# Altium integrated library Microchip Thermal Management.IntLib: 300 symbols (part 3 of 6)
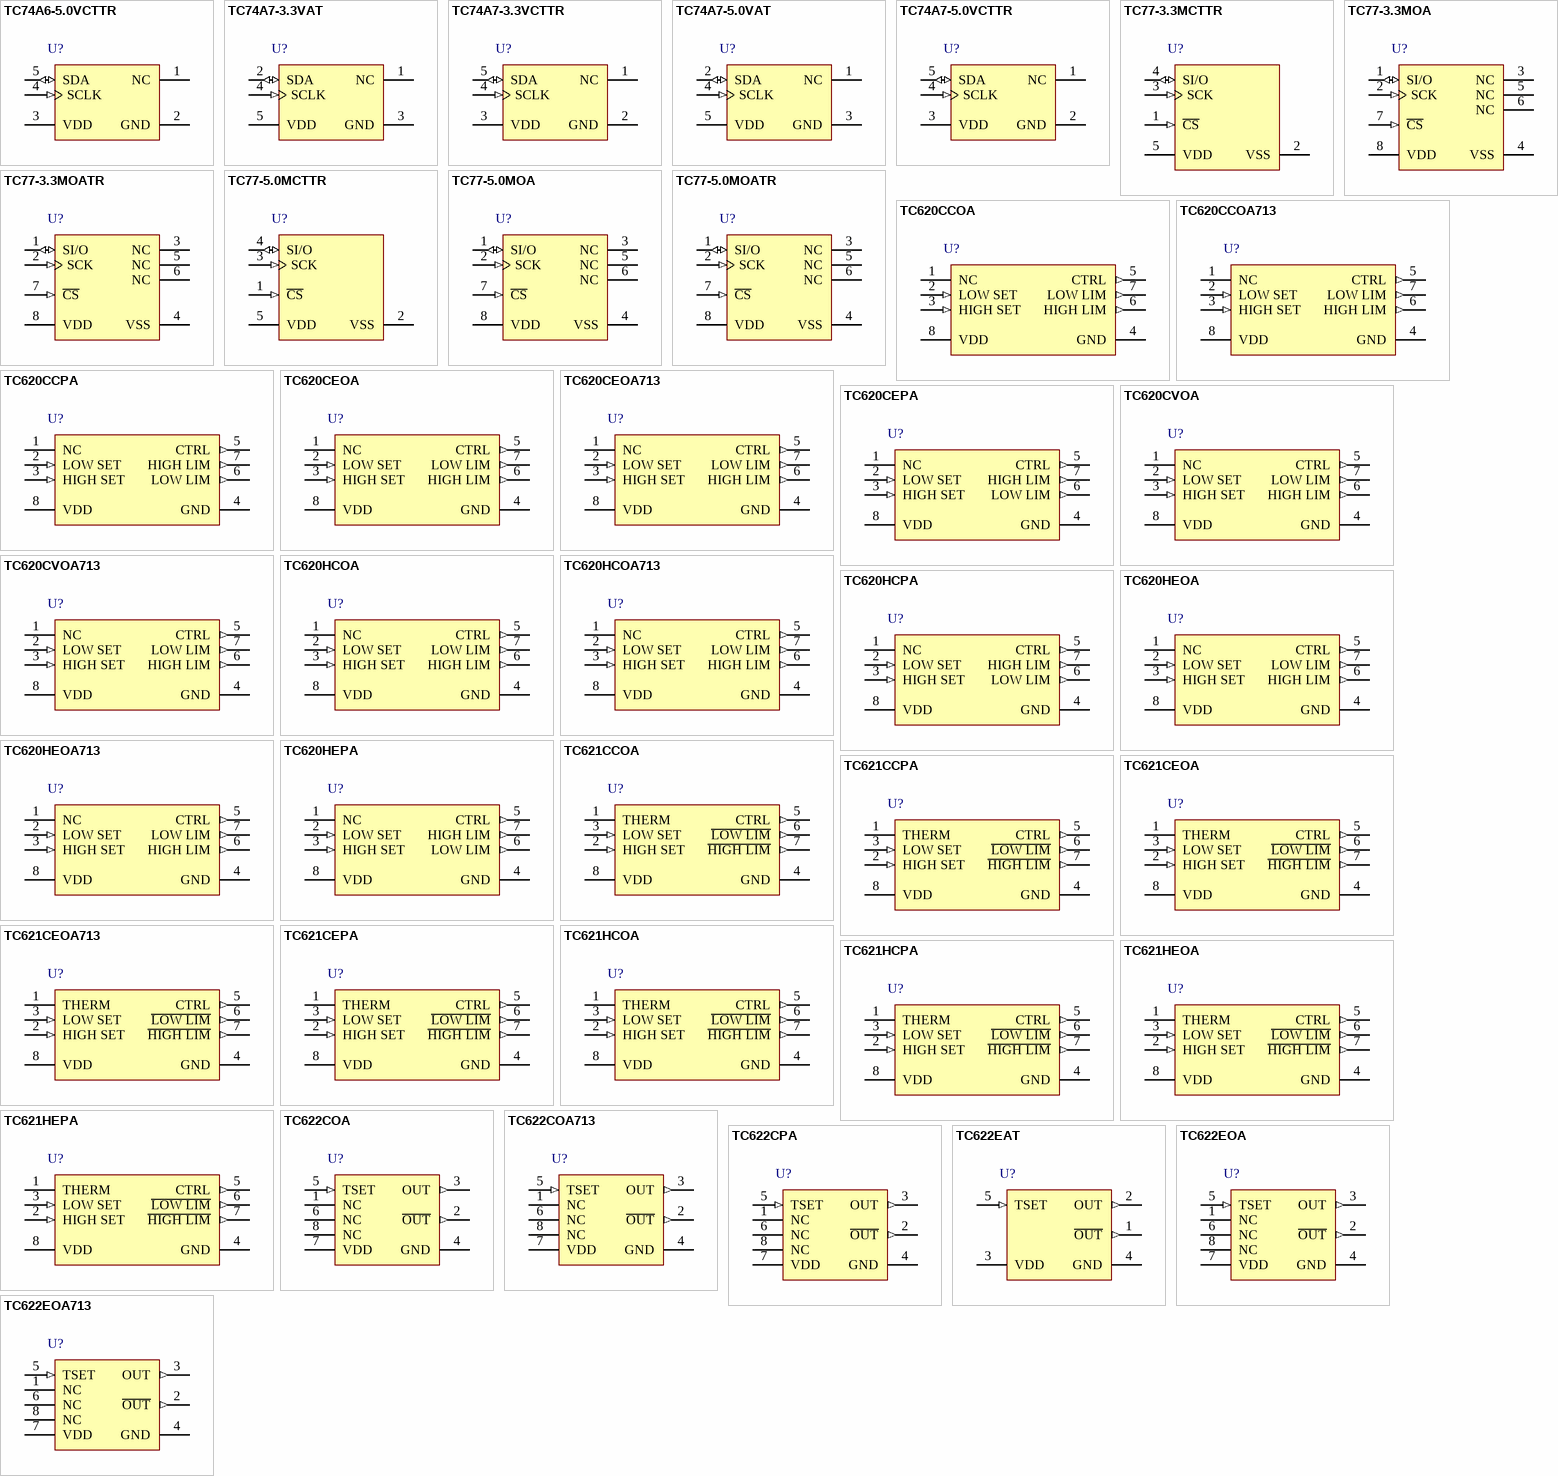
[diagram p9: symbols TC74A6-5.0VCTTR to TC622EOA713]

## TC621CCOA
designator U?
5V, Dual Trip Point Temperature Sensor, 8-Pin SOIC, Commercial Temperature; Published: 29-Jan-2009; DatasheetVersion: 31-Oct-05; PackageVersion: revAW, Oct-2008; PackageReference: SOIC-OA8; Publisher: Altium Limited; Code_IPC: SOIC127P600-8; ComponentLink1Description: Manufacturer Link; ComponentLink1URL: http://www.microchip.com; ComponentLink2Description: Datasheet; ComponentLink2URL: http://ww1.microchip.com/downloads/en/DeviceDoc/21439C.pdf; ComponentLink3Description: Packaging Specification; ComponentLink3URL: http://ww1.microchip.com/downloads/en/PackagingSpec/00049AW.pdf
footprint SOIC-OA8_N (SOIC, 8-Leads, Body 4.9x3.9mm, Pitch 1.27mm, IPC Medium Density)
footprint SOIC-OA8_L (SOIC, 8-Leads, Body 4.9x3.9mm, Pitch 1.27mm, IPC High Density)
footprint SOIC-OA8_M (SOIC, 8-Leads, Body 4.9x3.9mm, Pitch 1.27mm, IPC Low Density)
pins: 1 THERM, 2 HIGH SET (in), 3 LOW SET (in), 4 GND (power), 5 CTRL (out), 6 ~{LOW LIM} (out), 7 ~{HIGH LIM} (out), 8 VDD (power)

## TC621CCPA
designator U?
5V, Dual Trip Point Temperature Sensor, 8-Pin PDIP, Commercial Temperature; Published: 29-Jan-2009; DatasheetVersion: 31-Oct-05; PackageVersion: revAW, Oct-2008; PackageReference: PDIP300-PA8; Publisher: Altium Limited; Code_JEDEC: MS-001-BA; ComponentLink1Description: Manufacturer Link; ComponentLink1URL: http://www.microchip.com; ComponentLink2Description: Datasheet; ComponentLink2URL: http://ww1.microchip.com/downloads/en/DeviceDoc/21439C.pdf; ComponentLink3Description: Packaging Specification; ComponentLink3URL: http://ww1.microchip.com/downloads/en/PackagingSpec/00049AW.pdf
footprint PDIP300-PA8 (DIP, 8-Leads, Row Spacing 7.62mm, Pitch 2.54mm, Body 9.5x6.6mm)
pins: 1 THERM, 2 HIGH SET (in), 3 LOW SET (in), 4 GND (power), 5 CTRL (out), 6 ~{LOW LIM} (out), 7 ~{HIGH LIM} (out), 8 VDD (power)

## TC621CEOA
designator U?
5V, Dual Trip Point Temperature Sensor, 8-Pin SOIC, Industrial Temperature; Published: 29-Jan-2009; DatasheetVersion: 31-Oct-05; PackageVersion: revAW, Oct-2008; PackageReference: SOIC-OA8; Publisher: Altium Limited; Code_IPC: SOIC127P600-8; ComponentLink1Description: Manufacturer Link; ComponentLink1URL: http://www.microchip.com; ComponentLink2Description: Datasheet; ComponentLink2URL: http://ww1.microchip.com/downloads/en/DeviceDoc/21439C.pdf; ComponentLink3Description: Packaging Specification; ComponentLink3URL: http://ww1.microchip.com/downloads/en/PackagingSpec/00049AW.pdf
footprint SOIC-OA8_N (SOIC, 8-Leads, Body 4.9x3.9mm, Pitch 1.27mm, IPC Medium Density)
footprint SOIC-OA8_L (SOIC, 8-Leads, Body 4.9x3.9mm, Pitch 1.27mm, IPC High Density)
footprint SOIC-OA8_M (SOIC, 8-Leads, Body 4.9x3.9mm, Pitch 1.27mm, IPC Low Density)
pins: 1 THERM, 2 HIGH SET (in), 3 LOW SET (in), 4 GND (power), 5 CTRL (out), 6 ~{LOW LIM} (out), 7 ~{HIGH LIM} (out), 8 VDD (power)

## TC621CEOA713
designator U?
5V, Dual Trip Point Temperature Sensor, 8-Pin SOIC, Industrial Temperature, Tape and Reel; Published: 29-Jan-2009; DatasheetVersion: 31-Oct-05; PackageVersion: revAW, Oct-2008; PackageReference: SOIC-OA8; Publisher: Altium Limited; Code_IPC: SOIC127P600-8; ComponentLink1Description: Manufacturer Link; ComponentLink1URL: http://www.microchip.com; ComponentLink2Description: Datasheet; ComponentLink2URL: http://ww1.microchip.com/downloads/en/DeviceDoc/21439C.pdf; ComponentLink3Description: Packaging Specification; ComponentLink3URL: http://ww1.microchip.com/downloads/en/PackagingSpec/00049AW.pdf
footprint SOIC-OA8_N (SOIC, 8-Leads, Body 4.9x3.9mm, Pitch 1.27mm, IPC Medium Density)
footprint SOIC-OA8_L (SOIC, 8-Leads, Body 4.9x3.9mm, Pitch 1.27mm, IPC High Density)
footprint SOIC-OA8_M (SOIC, 8-Leads, Body 4.9x3.9mm, Pitch 1.27mm, IPC Low Density)
pins: 1 THERM, 2 HIGH SET (in), 3 LOW SET (in), 4 GND (power), 5 CTRL (out), 6 ~{LOW LIM} (out), 7 ~{HIGH LIM} (out), 8 VDD (power)

## TC621CEPA
designator U?
5V, Dual Trip Point Temperature Sensor, 8-Pin PDIP, Industrial Temperature; Published: 29-Jan-2009; DatasheetVersion: 31-Oct-05; PackageVersion: revAW, Oct-2008; PackageReference: PDIP300-PA8; Publisher: Altium Limited; Code_JEDEC: MS-001-BA; ComponentLink1Description: Manufacturer Link; ComponentLink1URL: http://www.microchip.com; ComponentLink2Description: Datasheet; ComponentLink2URL: http://ww1.microchip.com/downloads/en/DeviceDoc/21439C.pdf; ComponentLink3Description: Packaging Specification; ComponentLink3URL: http://ww1.microchip.com/downloads/en/PackagingSpec/00049AW.pdf
footprint PDIP300-PA8 (DIP, 8-Leads, Row Spacing 7.62mm, Pitch 2.54mm, Body 9.5x6.6mm)
pins: 1 THERM, 2 HIGH SET (in), 3 LOW SET (in), 4 GND (power), 5 CTRL (out), 6 ~{LOW LIM} (out), 7 ~{HIGH LIM} (out), 8 VDD (power)

## TC621HCOA
designator U?
5V, Dual Trip Point Temperature Sensor, 8-Pin SOIC, Commercial Temperature; Published: 29-Jan-2009; DatasheetVersion: 31-Oct-05; PackageVersion: revAW, Oct-2008; PackageReference: SOIC-OA8; Publisher: Altium Limited; Code_IPC: SOIC127P600-8; ComponentLink1Description: Manufacturer Link; ComponentLink1URL: http://www.microchip.com; ComponentLink2Description: Datasheet; ComponentLink2URL: http://ww1.microchip.com/downloads/en/DeviceDoc/21439C.pdf; ComponentLink3Description: Packaging Specification; ComponentLink3URL: http://ww1.microchip.com/downloads/en/PackagingSpec/00049AW.pdf
footprint SOIC-OA8_N (SOIC, 8-Leads, Body 4.9x3.9mm, Pitch 1.27mm, IPC Medium Density)
footprint SOIC-OA8_L (SOIC, 8-Leads, Body 4.9x3.9mm, Pitch 1.27mm, IPC High Density)
footprint SOIC-OA8_M (SOIC, 8-Leads, Body 4.9x3.9mm, Pitch 1.27mm, IPC Low Density)
pins: 1 THERM, 2 HIGH SET (in), 3 LOW SET (in), 4 GND (power), 5 CTRL (out), 6 ~{LOW LIM} (out), 7 ~{HIGH LIM} (out), 8 VDD (power)

## TC621HCPA
designator U?
5V, Dual Trip Point Temperature Sensor, 8-Pin PDIP, Commercial Temperature; Published: 29-Jan-2009; DatasheetVersion: 31-Oct-05; PackageVersion: revAW, Oct-2008; PackageReference: PDIP300-PA8; Publisher: Altium Limited; Code_JEDEC: MS-001-BA; ComponentLink1Description: Manufacturer Link; ComponentLink1URL: http://www.microchip.com; ComponentLink2Description: Datasheet; ComponentLink2URL: http://ww1.microchip.com/downloads/en/DeviceDoc/21439C.pdf; ComponentLink3Description: Packaging Specification; ComponentLink3URL: http://ww1.microchip.com/downloads/en/PackagingSpec/00049AW.pdf
footprint PDIP300-PA8 (DIP, 8-Leads, Row Spacing 7.62mm, Pitch 2.54mm, Body 9.5x6.6mm)
pins: 1 THERM, 2 HIGH SET (in), 3 LOW SET (in), 4 GND (power), 5 CTRL (out), 6 ~{LOW LIM} (out), 7 ~{HIGH LIM} (out), 8 VDD (power)

## TC621HEOA
designator U?
5V, Dual Trip Point Temperature Sensor, 8-Pin SOIC, Industrial Temperature; Published: 29-Jan-2009; DatasheetVersion: 31-Oct-05; PackageVersion: revAW, Oct-2008; PackageReference: SOIC-OA8; Publisher: Altium Limited; Code_IPC: SOIC127P600-8; ComponentLink1Description: Manufacturer Link; ComponentLink1URL: http://www.microchip.com; ComponentLink2Description: Datasheet; ComponentLink2URL: http://ww1.microchip.com/downloads/en/DeviceDoc/21439C.pdf; ComponentLink3Description: Packaging Specification; ComponentLink3URL: http://ww1.microchip.com/downloads/en/PackagingSpec/00049AW.pdf
footprint SOIC-OA8_N (SOIC, 8-Leads, Body 4.9x3.9mm, Pitch 1.27mm, IPC Medium Density)
footprint SOIC-OA8_L (SOIC, 8-Leads, Body 4.9x3.9mm, Pitch 1.27mm, IPC High Density)
footprint SOIC-OA8_M (SOIC, 8-Leads, Body 4.9x3.9mm, Pitch 1.27mm, IPC Low Density)
pins: 1 THERM, 2 HIGH SET (in), 3 LOW SET (in), 4 GND (power), 5 CTRL (out), 6 ~{LOW LIM} (out), 7 ~{HIGH LIM} (out), 8 VDD (power)

## TC621HEPA
designator U?
5V, Dual Trip Point Temperature Sensor, 8-Pin PDIP, Industrial Temperature; Published: 29-Jan-2009; DatasheetVersion: 31-Oct-05; PackageVersion: revAW, Oct-2008; PackageReference: PDIP300-PA8; Publisher: Altium Limited; Code_JEDEC: MS-001-BA; ComponentLink1Description: Manufacturer Link; ComponentLink1URL: http://www.microchip.com; ComponentLink2Description: Datasheet; ComponentLink2URL: http://ww1.microchip.com/downloads/en/DeviceDoc/21439C.pdf; ComponentLink3Description: Packaging Specification; ComponentLink3URL: http://ww1.microchip.com/downloads/en/PackagingSpec/00049AW.pdf
footprint PDIP300-PA8 (DIP, 8-Leads, Row Spacing 7.62mm, Pitch 2.54mm, Body 9.5x6.6mm)
pins: 1 THERM, 2 HIGH SET (in), 3 LOW SET (in), 4 GND (power), 5 CTRL (out), 6 ~{LOW LIM} (out), 7 ~{HIGH LIM} (out), 8 VDD (power)

## TC622COA
designator U?
Low Cost Single Trip Point Temperature Sensor, 8-Pin SOIC, Commercial Temperature; Published: 29-Jan-2009; DatasheetVersion: 31-Oct-05; PackageVersion: revAW, Oct-2008; PackageReference: SOIC-OA8; Publisher: Altium Limited; Code_IPC: SOIC127P600-8; ComponentLink1Description: Manufacturer Link; ComponentLink1URL: http://www.microchip.com; ComponentLink2Description: Datasheet; ComponentLink2URL: http://ww1.microchip.com/downloads/en/DeviceDoc/21440C.pdf; ComponentLink3Description: Packaging Specification; ComponentLink3URL: http://ww1.microchip.com/downloads/en/PackagingSpec/00049AW.pdf
footprint SOIC-OA8_N (SOIC, 8-Leads, Body 4.9x3.9mm, Pitch 1.27mm, IPC Medium Density)
footprint SOIC-OA8_L (SOIC, 8-Leads, Body 4.9x3.9mm, Pitch 1.27mm, IPC High Density)
footprint SOIC-OA8_M (SOIC, 8-Leads, Body 4.9x3.9mm, Pitch 1.27mm, IPC Low Density)
pins: 1 NC, 2 ~{OUT} (out), 3 OUT (out), 4 GND (power), 5 TSET (in), 6 NC, 7 VDD (power), 8 NC

## TC622COA713
designator U?
Low Cost Single Trip Point Temperature Sensor, 8-Pin SOIC, Commercial Temperature, Tape and Reel; Published: 29-Jan-2009; DatasheetVersion: 31-Oct-05; PackageVersion: revAW, Oct-2008; PackageReference: SOIC-OA8; Publisher: Altium Limited; Code_IPC: SOIC127P600-8; ComponentLink1Description: Manufacturer Link; ComponentLink1URL: http://www.microchip.com; ComponentLink2Description: Datasheet; ComponentLink2URL: http://ww1.microchip.com/downloads/en/DeviceDoc/21440C.pdf; ComponentLink3Description: Packaging Specification; ComponentLink3URL: http://ww1.microchip.com/downloads/en/PackagingSpec/00049AW.pdf
footprint SOIC-OA8_N (SOIC, 8-Leads, Body 4.9x3.9mm, Pitch 1.27mm, IPC Medium Density)
footprint SOIC-OA8_L (SOIC, 8-Leads, Body 4.9x3.9mm, Pitch 1.27mm, IPC High Density)
footprint SOIC-OA8_M (SOIC, 8-Leads, Body 4.9x3.9mm, Pitch 1.27mm, IPC Low Density)
pins: 1 NC, 2 ~{OUT} (out), 3 OUT (out), 4 GND (power), 5 TSET (in), 6 NC, 7 VDD (power), 8 NC

## TC622CPA
designator U?
Low Cost Single Trip Point Temperature Sensor, 8-Pin PDIP, Commercial Temperature; Published: 29-Jan-2009; DatasheetVersion: 31-Oct-05; PackageVersion: revAW, Oct-2008; PackageReference: PDIP300-PA8; Publisher: Altium Limited; Code_JEDEC: MS-001-BA; ComponentLink1Description: Manufacturer Link; ComponentLink1URL: http://www.microchip.com; ComponentLink2Description: Datasheet; ComponentLink2URL: http://ww1.microchip.com/downloads/en/DeviceDoc/21440C.pdf; ComponentLink3Description: Packaging Specification; ComponentLink3URL: http://ww1.microchip.com/downloads/en/PackagingSpec/00049AW.pdf
footprint PDIP300-PA8 (DIP, 8-Leads, Row Spacing 7.62mm, Pitch 2.54mm, Body 9.5x6.6mm)
pins: 1 NC, 2 ~{OUT} (out), 3 OUT (out), 4 GND (power), 5 TSET (in), 6 NC, 7 VDD (power), 8 NC

## TC622EAT
designator U?
Low Cost Single Trip Point Temperature Sensor, 5-Pin TO-220, Industrial Temperature; Published: 29-Jan-2009; DatasheetVersion: 31-Oct-05; PackageVersion: revAW, Oct-2008; PackageReference: TO-220-AT5; Publisher: Altium Limited; ComponentLink1Description: Manufacturer Link; ComponentLink1URL: http://www.microchip.com; ComponentLink2Description: Datasheet; ComponentLink2URL: http://ww1.microchip.com/downloads/en/DeviceDoc/21440C.pdf; ComponentLink3Description: Packaging Specification; ComponentLink3URL: http://ww1.microchip.com/downloads/en/PackagingSpec/00049AW.pdf
footprint TO-220-AT5 (TO, Thru-Hole, Vertical, Heatsink Mounted; 5 In-Line Leads; Pitch 1.70 mm)
pins: 1 ~{OUT} (out), 2 OUT (out), 3 VDD (power), 4 GND (power), 5 TSET (in)

## TC622EOA
designator U?
Low Cost Single Trip Point Temperature Sensor, 8-Pin SOIC, Industrial Temperature; Published: 29-Jan-2009; DatasheetVersion: 31-Oct-05; PackageVersion: revAW, Oct-2008; PackageReference: SOIC-OA8; Publisher: Altium Limited; Code_IPC: SOIC127P600-8; ComponentLink1Description: Manufacturer Link; ComponentLink1URL: http://www.microchip.com; ComponentLink2Description: Datasheet; ComponentLink2URL: http://ww1.microchip.com/downloads/en/DeviceDoc/21440C.pdf; ComponentLink3Description: Packaging Specification; ComponentLink3URL: http://ww1.microchip.com/downloads/en/PackagingSpec/00049AW.pdf
footprint SOIC-OA8_N (SOIC, 8-Leads, Body 4.9x3.9mm, Pitch 1.27mm, IPC Medium Density)
footprint SOIC-OA8_L (SOIC, 8-Leads, Body 4.9x3.9mm, Pitch 1.27mm, IPC High Density)
footprint SOIC-OA8_M (SOIC, 8-Leads, Body 4.9x3.9mm, Pitch 1.27mm, IPC Low Density)
pins: 1 NC, 2 ~{OUT} (out), 3 OUT (out), 4 GND (power), 5 TSET (in), 6 NC, 7 VDD (power), 8 NC

## TC622EOA713
designator U?
Low Cost Single Trip Point Temperature Sensor, 8-Pin SOIC, Industrial Temperature, Tape and Reel; Published: 29-Jan-2009; DatasheetVersion: 31-Oct-05; PackageVersion: revAW, Oct-2008; PackageReference: SOIC-OA8; Publisher: Altium Limited; Code_IPC: SOIC127P600-8; ComponentLink1Description: Manufacturer Link; ComponentLink1URL: http://www.microchip.com; ComponentLink2Description: Datasheet; ComponentLink2URL: http://ww1.microchip.com/downloads/en/DeviceDoc/21440C.pdf; ComponentLink3Description: Packaging Specification; ComponentLink3URL: http://ww1.microchip.com/downloads/en/PackagingSpec/00049AW.pdf
footprint SOIC-OA8_N (SOIC, 8-Leads, Body 4.9x3.9mm, Pitch 1.27mm, IPC Medium Density)
footprint SOIC-OA8_L (SOIC, 8-Leads, Body 4.9x3.9mm, Pitch 1.27mm, IPC High Density)
footprint SOIC-OA8_M (SOIC, 8-Leads, Body 4.9x3.9mm, Pitch 1.27mm, IPC Low Density)
pins: 1 NC, 2 ~{OUT} (out), 3 OUT (out), 4 GND (power), 5 TSET (in), 6 NC, 7 VDD (power), 8 NC

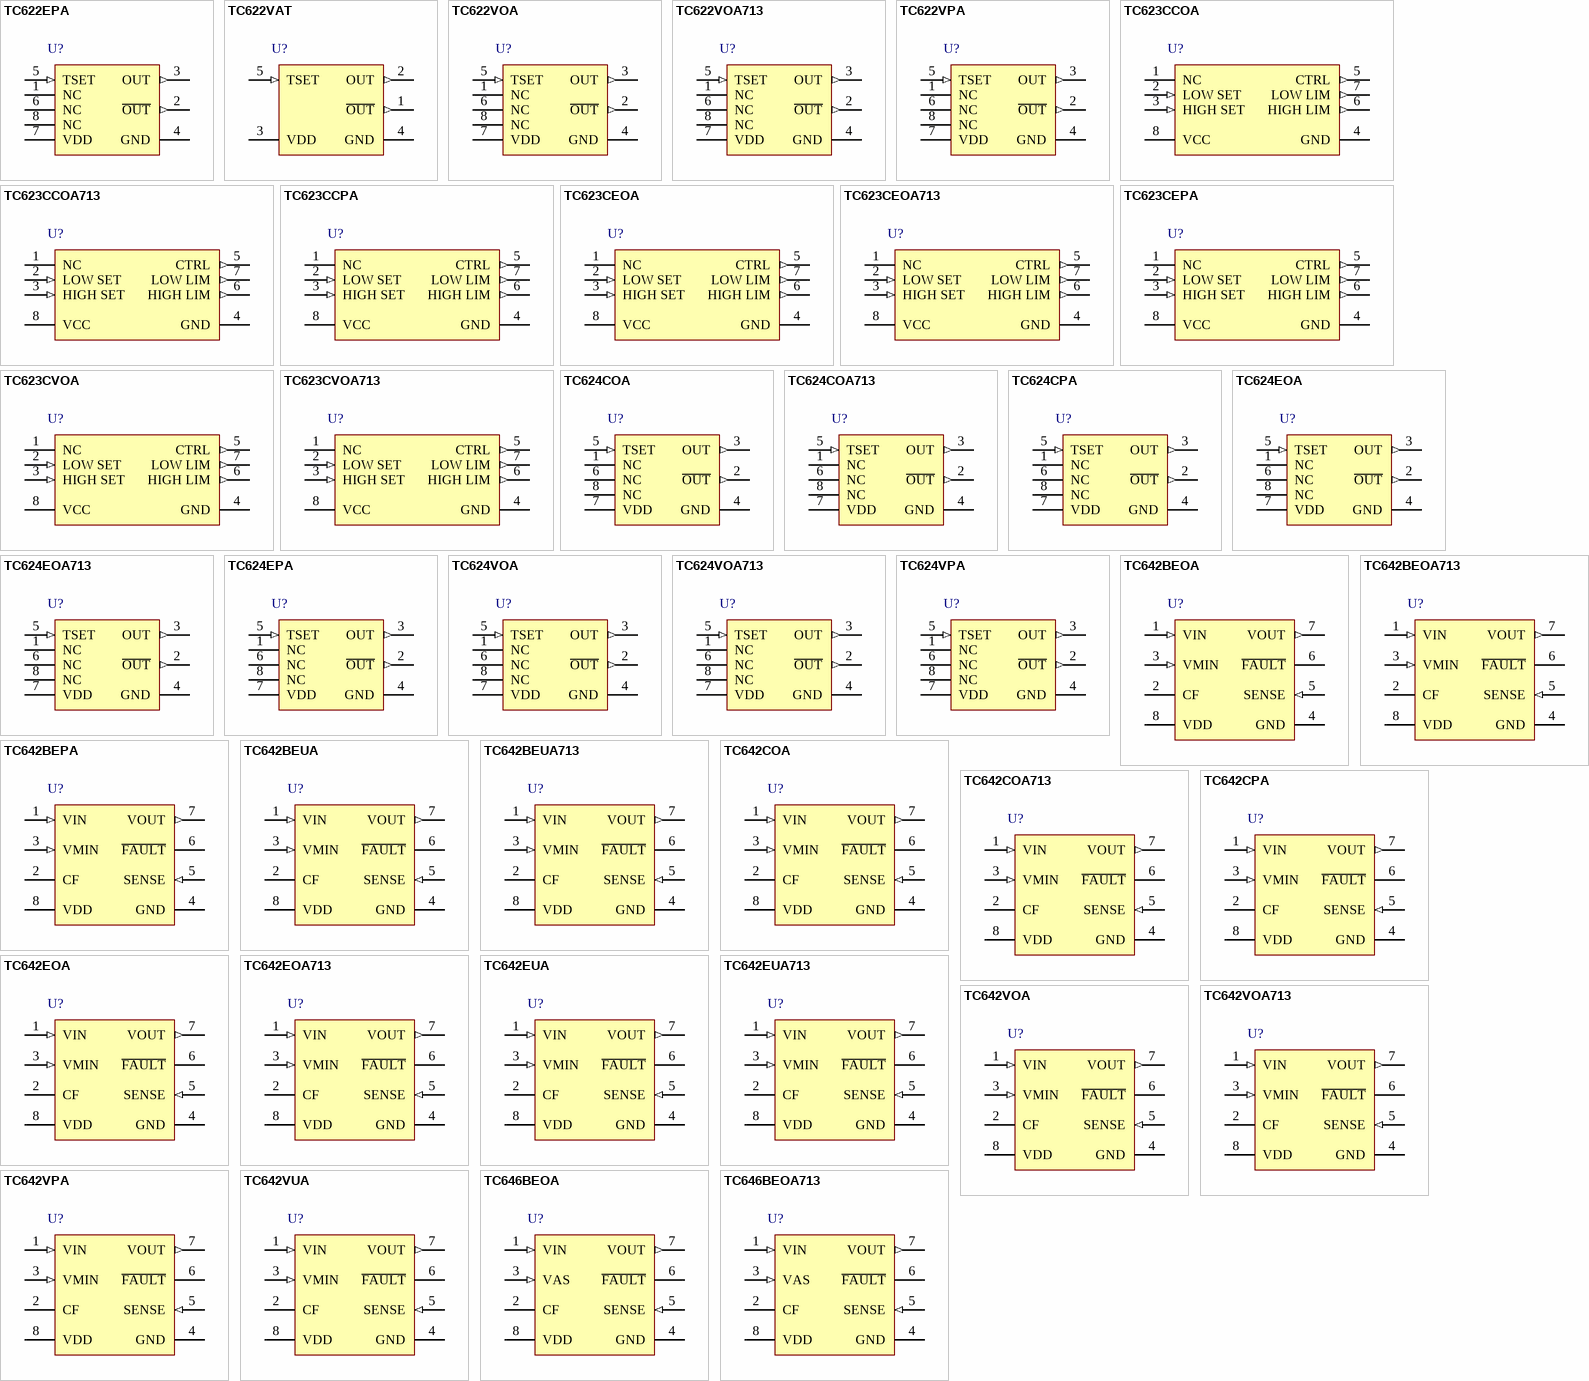
[diagram p3: symbols TC622EPA to TC646BEOA713]

## TC622EPA
designator U?
Low Cost Single Trip Point Temperature Sensor, 8-Pin PDIP, Industrial Temperature; Published: 29-Jan-2009; DatasheetVersion: 31-Oct-05; PackageVersion: revAW, Oct-2008; PackageReference: PDIP300-PA8; Publisher: Altium Limited; Code_JEDEC: MS-001-BA; ComponentLink1Description: Manufacturer Link; ComponentLink1URL: http://www.microchip.com; ComponentLink2Description: Datasheet; ComponentLink2URL: http://ww1.microchip.com/downloads/en/DeviceDoc/21440C.pdf; ComponentLink3Description: Packaging Specification; ComponentLink3URL: http://ww1.microchip.com/downloads/en/PackagingSpec/00049AW.pdf
footprint PDIP300-PA8 (DIP, 8-Leads, Row Spacing 7.62mm, Pitch 2.54mm, Body 9.5x6.6mm)
pins: 1 NC, 2 ~{OUT} (out), 3 OUT (out), 4 GND (power), 5 TSET (in), 6 NC, 7 VDD (power), 8 NC

## TC622VAT
designator U?
Low Cost Single Trip Point Temperature Sensor, 5-Pin TO-220, Extended Temperature; Published: 29-Jan-2009; DatasheetVersion: 31-Oct-05; PackageVersion: revAW, Oct-2008; PackageReference: TO-220-AT5; Publisher: Altium Limited; ComponentLink1Description: Manufacturer Link; ComponentLink1URL: http://www.microchip.com; ComponentLink2Description: Datasheet; ComponentLink2URL: http://ww1.microchip.com/downloads/en/DeviceDoc/21440C.pdf; ComponentLink3Description: Packaging Specification; ComponentLink3URL: http://ww1.microchip.com/downloads/en/PackagingSpec/00049AW.pdf
footprint TO-220-AT5 (TO, Thru-Hole, Vertical, Heatsink Mounted; 5 In-Line Leads; Pitch 1.70 mm)
pins: 1 ~{OUT} (out), 2 OUT (out), 3 VDD (power), 4 GND (power), 5 TSET (in)

## TC622VOA
designator U?
Low Cost Single Trip Point Temperature Sensor, 8-Pin SOIC, Extended Temperature; Published: 29-Jan-2009; DatasheetVersion: 31-Oct-05; PackageVersion: revAW, Oct-2008; PackageReference: SOIC-OA8; Publisher: Altium Limited; Code_IPC: SOIC127P600-8; ComponentLink1Description: Manufacturer Link; ComponentLink1URL: http://www.microchip.com; ComponentLink2Description: Datasheet; ComponentLink2URL: http://ww1.microchip.com/downloads/en/DeviceDoc/21440C.pdf; ComponentLink3Description: Packaging Specification; ComponentLink3URL: http://ww1.microchip.com/downloads/en/PackagingSpec/00049AW.pdf
footprint SOIC-OA8_N (SOIC, 8-Leads, Body 4.9x3.9mm, Pitch 1.27mm, IPC Medium Density)
footprint SOIC-OA8_L (SOIC, 8-Leads, Body 4.9x3.9mm, Pitch 1.27mm, IPC High Density)
footprint SOIC-OA8_M (SOIC, 8-Leads, Body 4.9x3.9mm, Pitch 1.27mm, IPC Low Density)
pins: 1 NC, 2 ~{OUT} (out), 3 OUT (out), 4 GND (power), 5 TSET (in), 6 NC, 7 VDD (power), 8 NC

## TC622VOA713
designator U?
Low Cost Single Trip Point Temperature Sensor, 8-Pin SOIC, Extended Temperature, Tape and Reel; Published: 29-Jan-2009; DatasheetVersion: 31-Oct-05; PackageVersion: revAW, Oct-2008; PackageReference: SOIC-OA8; Publisher: Altium Limited; Code_IPC: SOIC127P600-8; ComponentLink1Description: Manufacturer Link; ComponentLink1URL: http://www.microchip.com; ComponentLink2Description: Datasheet; ComponentLink2URL: http://ww1.microchip.com/downloads/en/DeviceDoc/21440C.pdf; ComponentLink3Description: Packaging Specification; ComponentLink3URL: http://ww1.microchip.com/downloads/en/PackagingSpec/00049AW.pdf
footprint SOIC-OA8_N (SOIC, 8-Leads, Body 4.9x3.9mm, Pitch 1.27mm, IPC Medium Density)
footprint SOIC-OA8_L (SOIC, 8-Leads, Body 4.9x3.9mm, Pitch 1.27mm, IPC High Density)
footprint SOIC-OA8_M (SOIC, 8-Leads, Body 4.9x3.9mm, Pitch 1.27mm, IPC Low Density)
pins: 1 NC, 2 ~{OUT} (out), 3 OUT (out), 4 GND (power), 5 TSET (in), 6 NC, 7 VDD (power), 8 NC

## TC622VPA
designator U?
Low Cost Single Trip Point Temperature Sensor, 8-Pin PDIP, Extended Temperature; Published: 29-Jan-2009; DatasheetVersion: 31-Oct-05; PackageVersion: revAW, Oct-2008; PackageReference: PDIP300-PA8; Publisher: Altium Limited; Code_JEDEC: MS-001-BA; ComponentLink1Description: Manufacturer Link; ComponentLink1URL: http://www.microchip.com; ComponentLink2Description: Datasheet; ComponentLink2URL: http://ww1.microchip.com/downloads/en/DeviceDoc/21440C.pdf; ComponentLink3Description: Packaging Specification; ComponentLink3URL: http://ww1.microchip.com/downloads/en/PackagingSpec/00049AW.pdf
footprint PDIP300-PA8 (DIP, 8-Leads, Row Spacing 7.62mm, Pitch 2.54mm, Body 9.5x6.6mm)
pins: 1 NC, 2 ~{OUT} (out), 3 OUT (out), 4 GND (power), 5 TSET (in), 6 NC, 7 VDD (power), 8 NC

## TC623CCOA
designator U?
3V, Dual Trip Point Temperature Sensor, 8-Pin SOIC, Commercial Temperature; Published: 29-Jan-2009; DatasheetVersion: 31-Oct-05; PackageVersion: revAW, Oct-2008; PackageReference: SOIC-OA8; Publisher: Altium Limited; Code_IPC: SOIC127P600-8; ComponentLink1Description: Manufacturer Link; ComponentLink1URL: http://www.microchip.com; ComponentLink2Description: Datasheet; ComponentLink2URL: http://ww1.microchip.com/downloads/en/DeviceDoc/21441C.pdf; ComponentLink3Description: Packaging Specification; ComponentLink3URL: http://ww1.microchip.com/downloads/en/PackagingSpec/00049AW.pdf
footprint SOIC-OA8_N (SOIC, 8-Leads, Body 4.9x3.9mm, Pitch 1.27mm, IPC Medium Density)
footprint SOIC-OA8_L (SOIC, 8-Leads, Body 4.9x3.9mm, Pitch 1.27mm, IPC High Density)
footprint SOIC-OA8_M (SOIC, 8-Leads, Body 4.9x3.9mm, Pitch 1.27mm, IPC Low Density)
pins: 1 NC, 2 LOW SET (in), 3 HIGH SET (in), 4 GND (power), 5 CTRL (out), 6 HIGH LIM (out), 7 LOW LIM (out), 8 VCC (power)

## TC623CCOA713
designator U?
3V, Dual Trip Point Temperature Sensor, 8-Pin SOIC, Commercial Temperature, Tape and Reel; Published: 29-Jan-2009; DatasheetVersion: 31-Oct-05; PackageVersion: revAW, Oct-2008; PackageReference: SOIC-OA8; Publisher: Altium Limited; Code_IPC: SOIC127P600-8; ComponentLink1Description: Manufacturer Link; ComponentLink1URL: http://www.microchip.com; ComponentLink2Description: Datasheet; ComponentLink2URL: http://ww1.microchip.com/downloads/en/DeviceDoc/21441C.pdf; ComponentLink3Description: Packaging Specification; ComponentLink3URL: http://ww1.microchip.com/downloads/en/PackagingSpec/00049AW.pdf
footprint SOIC-OA8_N (SOIC, 8-Leads, Body 4.9x3.9mm, Pitch 1.27mm, IPC Medium Density)
footprint SOIC-OA8_L (SOIC, 8-Leads, Body 4.9x3.9mm, Pitch 1.27mm, IPC High Density)
footprint SOIC-OA8_M (SOIC, 8-Leads, Body 4.9x3.9mm, Pitch 1.27mm, IPC Low Density)
pins: 1 NC, 2 LOW SET (in), 3 HIGH SET (in), 4 GND (power), 5 CTRL (out), 6 HIGH LIM (out), 7 LOW LIM (out), 8 VCC (power)

## TC623CCPA
designator U?
3V, Dual Trip Point Temperature Sensor, 8-Pin PDIP, Commercial Temperature; Published: 29-Jan-2009; DatasheetVersion: 31-Oct-05; PackageVersion: revAW, Oct-2008; PackageReference: PDIP300-PA8; Publisher: Altium Limited; Code_JEDEC: MS-001-BA; ComponentLink1Description: Manufacturer Link; ComponentLink1URL: http://www.microchip.com; ComponentLink2Description: Datasheet; ComponentLink2URL: http://ww1.microchip.com/downloads/en/DeviceDoc/21441C.pdf; ComponentLink3Description: Packaging Specification; ComponentLink3URL: http://ww1.microchip.com/downloads/en/PackagingSpec/00049AW.pdf
footprint PDIP300-PA8 (DIP, 8-Leads, Row Spacing 7.62mm, Pitch 2.54mm, Body 9.5x6.6mm)
pins: 1 NC, 2 LOW SET (in), 3 HIGH SET (in), 4 GND (power), 5 CTRL (out), 6 HIGH LIM (out), 7 LOW LIM (out), 8 VCC (power)

## TC623CEOA
designator U?
3V, Dual Trip Point Temperature Sensor, 8-Pin SOIC, Industrial Temperature; Published: 29-Jan-2009; DatasheetVersion: 31-Oct-05; PackageVersion: revAW, Oct-2008; PackageReference: SOIC-OA8; Publisher: Altium Limited; Code_IPC: SOIC127P600-8; ComponentLink1Description: Manufacturer Link; ComponentLink1URL: http://www.microchip.com; ComponentLink2Description: Datasheet; ComponentLink2URL: http://ww1.microchip.com/downloads/en/DeviceDoc/21441C.pdf; ComponentLink3Description: Packaging Specification; ComponentLink3URL: http://ww1.microchip.com/downloads/en/PackagingSpec/00049AW.pdf
footprint SOIC-OA8_N (SOIC, 8-Leads, Body 4.9x3.9mm, Pitch 1.27mm, IPC Medium Density)
footprint SOIC-OA8_L (SOIC, 8-Leads, Body 4.9x3.9mm, Pitch 1.27mm, IPC High Density)
footprint SOIC-OA8_M (SOIC, 8-Leads, Body 4.9x3.9mm, Pitch 1.27mm, IPC Low Density)
pins: 1 NC, 2 LOW SET (in), 3 HIGH SET (in), 4 GND (power), 5 CTRL (out), 6 HIGH LIM (out), 7 LOW LIM (out), 8 VCC (power)

## TC623CEOA713
designator U?
3V, Dual Trip Point Temperature Sensor, 8-Pin SOIC, Industrial Temperature, Tape and Reel; Published: 29-Jan-2009; DatasheetVersion: 31-Oct-05; PackageVersion: revAW, Oct-2008; PackageReference: SOIC-OA8; Publisher: Altium Limited; Code_IPC: SOIC127P600-8; ComponentLink1Description: Manufacturer Link; ComponentLink1URL: http://www.microchip.com; ComponentLink2Description: Datasheet; ComponentLink2URL: http://ww1.microchip.com/downloads/en/DeviceDoc/21441C.pdf; ComponentLink3Description: Packaging Specification; ComponentLink3URL: http://ww1.microchip.com/downloads/en/PackagingSpec/00049AW.pdf
footprint SOIC-OA8_N (SOIC, 8-Leads, Body 4.9x3.9mm, Pitch 1.27mm, IPC Medium Density)
footprint SOIC-OA8_L (SOIC, 8-Leads, Body 4.9x3.9mm, Pitch 1.27mm, IPC High Density)
footprint SOIC-OA8_M (SOIC, 8-Leads, Body 4.9x3.9mm, Pitch 1.27mm, IPC Low Density)
pins: 1 NC, 2 LOW SET (in), 3 HIGH SET (in), 4 GND (power), 5 CTRL (out), 6 HIGH LIM (out), 7 LOW LIM (out), 8 VCC (power)

## TC623CEPA
designator U?
3V, Dual Trip Point Temperature Sensor, 8-Pin PDIP, Industrial Temperature; Published: 29-Jan-2009; DatasheetVersion: 31-Oct-05; PackageVersion: revAW, Oct-2008; PackageReference: PDIP300-PA8; Publisher: Altium Limited; Code_JEDEC: MS-001-BA; ComponentLink1Description: Manufacturer Link; ComponentLink1URL: http://www.microchip.com; ComponentLink2Description: Datasheet; ComponentLink2URL: http://ww1.microchip.com/downloads/en/DeviceDoc/21441C.pdf; ComponentLink3Description: Packaging Specification; ComponentLink3URL: http://ww1.microchip.com/downloads/en/PackagingSpec/00049AW.pdf
footprint PDIP300-PA8 (DIP, 8-Leads, Row Spacing 7.62mm, Pitch 2.54mm, Body 9.5x6.6mm)
pins: 1 NC, 2 LOW SET (in), 3 HIGH SET (in), 4 GND (power), 5 CTRL (out), 6 HIGH LIM (out), 7 LOW LIM (out), 8 VCC (power)

## TC623CVOA
designator U?
3V, Dual Trip Point Temperature Sensor, 8-Pin SOIC, Extended Temperature; Published: 29-Jan-2009; DatasheetVersion: 31-Oct-05; PackageVersion: revAW, Oct-2008; PackageReference: SOIC-OA8; Publisher: Altium Limited; Code_IPC: SOIC127P600-8; ComponentLink1Description: Manufacturer Link; ComponentLink1URL: http://www.microchip.com; ComponentLink2Description: Datasheet; ComponentLink2URL: http://ww1.microchip.com/downloads/en/DeviceDoc/21441C.pdf; ComponentLink3Description: Packaging Specification; ComponentLink3URL: http://ww1.microchip.com/downloads/en/PackagingSpec/00049AW.pdf
footprint SOIC-OA8_N (SOIC, 8-Leads, Body 4.9x3.9mm, Pitch 1.27mm, IPC Medium Density)
footprint SOIC-OA8_L (SOIC, 8-Leads, Body 4.9x3.9mm, Pitch 1.27mm, IPC High Density)
footprint SOIC-OA8_M (SOIC, 8-Leads, Body 4.9x3.9mm, Pitch 1.27mm, IPC Low Density)
pins: 1 NC, 2 LOW SET (in), 3 HIGH SET (in), 4 GND (power), 5 CTRL (out), 6 HIGH LIM (out), 7 LOW LIM (out), 8 VCC (power)

## TC623CVOA713
designator U?
3V, Dual Trip Point Temperature Sensor, 8-Pin SOIC, Extended Temperature, Tape and Reel; Published: 29-Jan-2009; DatasheetVersion: 31-Oct-05; PackageVersion: revAW, Oct-2008; PackageReference: SOIC-OA8; Publisher: Altium Limited; Code_IPC: SOIC127P600-8; ComponentLink1Description: Manufacturer Link; ComponentLink1URL: http://www.microchip.com; ComponentLink2Description: Datasheet; ComponentLink2URL: http://ww1.microchip.com/downloads/en/DeviceDoc/21441C.pdf; ComponentLink3Description: Packaging Specification; ComponentLink3URL: http://ww1.microchip.com/downloads/en/PackagingSpec/00049AW.pdf
footprint SOIC-OA8_N (SOIC, 8-Leads, Body 4.9x3.9mm, Pitch 1.27mm, IPC Medium Density)
footprint SOIC-OA8_L (SOIC, 8-Leads, Body 4.9x3.9mm, Pitch 1.27mm, IPC High Density)
footprint SOIC-OA8_M (SOIC, 8-Leads, Body 4.9x3.9mm, Pitch 1.27mm, IPC Low Density)
pins: 1 NC, 2 LOW SET (in), 3 HIGH SET (in), 4 GND (power), 5 CTRL (out), 6 HIGH LIM (out), 7 LOW LIM (out), 8 VCC (power)

## TC624COA
designator U?
Low Cost Single Trip Point Temperature Sensor, 8-Pin SOIC, Commercial Temperature; Published: 29-Jan-2009; DatasheetVersion: 31-Oct-05; PackageVersion: revAW, Oct-2008; PackageReference: SOIC-OA8; Publisher: Altium Limited; Code_IPC: SOIC127P600-8; ComponentLink1Description: Manufacturer Link; ComponentLink1URL: http://www.microchip.com; ComponentLink2Description: Datasheet; ComponentLink2URL: http://ww1.microchip.com/downloads/en/DeviceDoc/21440C.pdf; ComponentLink3Description: Packaging Specification; ComponentLink3URL: http://ww1.microchip.com/downloads/en/PackagingSpec/00049AW.pdf
footprint SOIC-OA8_N (SOIC, 8-Leads, Body 4.9x3.9mm, Pitch 1.27mm, IPC Medium Density)
footprint SOIC-OA8_L (SOIC, 8-Leads, Body 4.9x3.9mm, Pitch 1.27mm, IPC High Density)
footprint SOIC-OA8_M (SOIC, 8-Leads, Body 4.9x3.9mm, Pitch 1.27mm, IPC Low Density)
pins: 1 NC, 2 ~{OUT} (out), 3 OUT (out), 4 GND (power), 5 TSET (in), 6 NC, 7 VDD (power), 8 NC

## TC624COA713
designator U?
Low Cost Single Trip Point Temperature Sensor, 8-Pin SOIC, Commercial Temperature, Tape and Reel; Published: 29-Jan-2009; DatasheetVersion: 31-Oct-05; PackageVersion: revAW, Oct-2008; PackageReference: SOIC-OA8; Publisher: Altium Limited; Code_IPC: SOIC127P600-8; ComponentLink1Description: Manufacturer Link; ComponentLink1URL: http://www.microchip.com; ComponentLink2Description: Datasheet; ComponentLink2URL: http://ww1.microchip.com/downloads/en/DeviceDoc/21440C.pdf; ComponentLink3Description: Packaging Specification; ComponentLink3URL: http://ww1.microchip.com/downloads/en/PackagingSpec/00049AW.pdf
footprint SOIC-OA8_N (SOIC, 8-Leads, Body 4.9x3.9mm, Pitch 1.27mm, IPC Medium Density)
footprint SOIC-OA8_L (SOIC, 8-Leads, Body 4.9x3.9mm, Pitch 1.27mm, IPC High Density)
footprint SOIC-OA8_M (SOIC, 8-Leads, Body 4.9x3.9mm, Pitch 1.27mm, IPC Low Density)
pins: 1 NC, 2 ~{OUT} (out), 3 OUT (out), 4 GND (power), 5 TSET (in), 6 NC, 7 VDD (power), 8 NC

## TC624CPA
designator U?
Low Cost Single Trip Point Temperature Sensor, 8-Pin PDIP, Commercial Temperature; Published: 29-Jan-2009; DatasheetVersion: 31-Oct-05; PackageVersion: revAW, Oct-2008; PackageReference: PDIP300-PA8; Publisher: Altium Limited; Code_JEDEC: MS-001-BA; ComponentLink1Description: Manufacturer Link; ComponentLink1URL: http://www.microchip.com; ComponentLink2Description: Datasheet; ComponentLink2URL: http://ww1.microchip.com/downloads/en/DeviceDoc/21440C.pdf; ComponentLink3Description: Packaging Specification; ComponentLink3URL: http://ww1.microchip.com/downloads/en/PackagingSpec/00049AW.pdf
footprint PDIP300-PA8 (DIP, 8-Leads, Row Spacing 7.62mm, Pitch 2.54mm, Body 9.5x6.6mm)
pins: 1 NC, 2 ~{OUT} (out), 3 OUT (out), 4 GND (power), 5 TSET (in), 6 NC, 7 VDD (power), 8 NC

## TC624EOA
designator U?
Low Cost Single Trip Point Temperature Sensor, 8-Pin SOIC, Industrial Temperature; Published: 29-Jan-2009; DatasheetVersion: 31-Oct-05; PackageVersion: revAW, Oct-2008; PackageReference: SOIC-OA8; Publisher: Altium Limited; Code_IPC: SOIC127P600-8; ComponentLink1Description: Manufacturer Link; ComponentLink1URL: http://www.microchip.com; ComponentLink2Description: Datasheet; ComponentLink2URL: http://ww1.microchip.com/downloads/en/DeviceDoc/21440C.pdf; ComponentLink3Description: Packaging Specification; ComponentLink3URL: http://ww1.microchip.com/downloads/en/PackagingSpec/00049AW.pdf
footprint SOIC-OA8_N (SOIC, 8-Leads, Body 4.9x3.9mm, Pitch 1.27mm, IPC Medium Density)
footprint SOIC-OA8_L (SOIC, 8-Leads, Body 4.9x3.9mm, Pitch 1.27mm, IPC High Density)
footprint SOIC-OA8_M (SOIC, 8-Leads, Body 4.9x3.9mm, Pitch 1.27mm, IPC Low Density)
pins: 1 NC, 2 ~{OUT} (out), 3 OUT (out), 4 GND (power), 5 TSET (in), 6 NC, 7 VDD (power), 8 NC

## TC624EOA713
designator U?
Low Cost Single Trip Point Temperature Sensor, 8-Pin SOIC, Industrial Temperature, Tape and Reel; Published: 29-Jan-2009; DatasheetVersion: 31-Oct-05; PackageVersion: revAW, Oct-2008; PackageReference: SOIC-OA8; Publisher: Altium Limited; Code_IPC: SOIC127P600-8; ComponentLink1Description: Manufacturer Link; ComponentLink1URL: http://www.microchip.com; ComponentLink2Description: Datasheet; ComponentLink2URL: http://ww1.microchip.com/downloads/en/DeviceDoc/21440C.pdf; ComponentLink3Description: Packaging Specification; ComponentLink3URL: http://ww1.microchip.com/downloads/en/PackagingSpec/00049AW.pdf
footprint SOIC-OA8_N (SOIC, 8-Leads, Body 4.9x3.9mm, Pitch 1.27mm, IPC Medium Density)
footprint SOIC-OA8_L (SOIC, 8-Leads, Body 4.9x3.9mm, Pitch 1.27mm, IPC High Density)
footprint SOIC-OA8_M (SOIC, 8-Leads, Body 4.9x3.9mm, Pitch 1.27mm, IPC Low Density)
pins: 1 NC, 2 ~{OUT} (out), 3 OUT (out), 4 GND (power), 5 TSET (in), 6 NC, 7 VDD (power), 8 NC

## TC624EPA
designator U?
Low Cost Single Trip Point Temperature Sensor, 8-Pin PDIP, Industrial Temperature; Published: 29-Jan-2009; DatasheetVersion: 31-Oct-05; PackageVersion: revAW, Oct-2008; PackageReference: PDIP300-PA8; Publisher: Altium Limited; Code_JEDEC: MS-001-BA; ComponentLink1Description: Manufacturer Link; ComponentLink1URL: http://www.microchip.com; ComponentLink2Description: Datasheet; ComponentLink2URL: http://ww1.microchip.com/downloads/en/DeviceDoc/21440C.pdf; ComponentLink3Description: Packaging Specification; ComponentLink3URL: http://ww1.microchip.com/downloads/en/PackagingSpec/00049AW.pdf
footprint PDIP300-PA8 (DIP, 8-Leads, Row Spacing 7.62mm, Pitch 2.54mm, Body 9.5x6.6mm)
pins: 1 NC, 2 ~{OUT} (out), 3 OUT (out), 4 GND (power), 5 TSET (in), 6 NC, 7 VDD (power), 8 NC

## TC624VOA
designator U?
Low Cost Single Trip Point Temperature Sensor, 8-Pin SOIC, Extended Temperature; Published: 29-Jan-2009; DatasheetVersion: 31-Oct-05; PackageVersion: revAW, Oct-2008; PackageReference: SOIC-OA8; Publisher: Altium Limited; Code_IPC: SOIC127P600-8; ComponentLink1Description: Manufacturer Link; ComponentLink1URL: http://www.microchip.com; ComponentLink2Description: Datasheet; ComponentLink2URL: http://ww1.microchip.com/downloads/en/DeviceDoc/21440C.pdf; ComponentLink3Description: Packaging Specification; ComponentLink3URL: http://ww1.microchip.com/downloads/en/PackagingSpec/00049AW.pdf
footprint SOIC-OA8_N (SOIC, 8-Leads, Body 4.9x3.9mm, Pitch 1.27mm, IPC Medium Density)
footprint SOIC-OA8_L (SOIC, 8-Leads, Body 4.9x3.9mm, Pitch 1.27mm, IPC High Density)
footprint SOIC-OA8_M (SOIC, 8-Leads, Body 4.9x3.9mm, Pitch 1.27mm, IPC Low Density)
pins: 1 NC, 2 ~{OUT} (out), 3 OUT (out), 4 GND (power), 5 TSET (in), 6 NC, 7 VDD (power), 8 NC

## TC624VOA713
designator U?
Low Cost Single Trip Point Temperature Sensor, 8-Pin SOIC, Extended Temperature, Tape and Reel; Published: 29-Jan-2009; DatasheetVersion: 31-Oct-05; PackageVersion: revAW, Oct-2008; PackageReference: SOIC-OA8; Publisher: Altium Limited; Code_IPC: SOIC127P600-8; ComponentLink1Description: Manufacturer Link; ComponentLink1URL: http://www.microchip.com; ComponentLink2Description: Datasheet; ComponentLink2URL: http://ww1.microchip.com/downloads/en/DeviceDoc/21440C.pdf; ComponentLink3Description: Packaging Specification; ComponentLink3URL: http://ww1.microchip.com/downloads/en/PackagingSpec/00049AW.pdf
footprint SOIC-OA8_N (SOIC, 8-Leads, Body 4.9x3.9mm, Pitch 1.27mm, IPC Medium Density)
footprint SOIC-OA8_L (SOIC, 8-Leads, Body 4.9x3.9mm, Pitch 1.27mm, IPC High Density)
footprint SOIC-OA8_M (SOIC, 8-Leads, Body 4.9x3.9mm, Pitch 1.27mm, IPC Low Density)
pins: 1 NC, 2 ~{OUT} (out), 3 OUT (out), 4 GND (power), 5 TSET (in), 6 NC, 7 VDD (power), 8 NC

## TC624VPA
designator U?
Low Cost Single Trip Point Temperature Sensor, 8-Pin PDIP, Extended Temperature; Published: 29-Jan-2009; DatasheetVersion: 31-Oct-05; PackageVersion: revAW, Oct-2008; PackageReference: PDIP300-PA8; Publisher: Altium Limited; Code_JEDEC: MS-001-BA; ComponentLink1Description: Manufacturer Link; ComponentLink1URL: http://www.microchip.com; ComponentLink2Description: Datasheet; ComponentLink2URL: http://ww1.microchip.com/downloads/en/DeviceDoc/21440C.pdf; ComponentLink3Description: Packaging Specification; ComponentLink3URL: http://ww1.microchip.com/downloads/en/PackagingSpec/00049AW.pdf
footprint PDIP300-PA8 (DIP, 8-Leads, Row Spacing 7.62mm, Pitch 2.54mm, Body 9.5x6.6mm)
pins: 1 NC, 2 ~{OUT} (out), 3 OUT (out), 4 GND (power), 5 TSET (in), 6 NC, 7 VDD (power), 8 NC

## TC642BEOA
designator U?
PWM Fan Speed Controller with Minimum Fan Speed, Fan Restart and FanSense Technology for Fault Detection, 8-Pin SOIC, Industrial Temperature; Published: 29-Jan-2009; DatasheetVersion: revB, May-2003; PackageVersion: revAW, Oct-2008; PackageReference: SOIC-OA8; Publisher: Altium Limited; Code_IPC: SOIC127P600-8; ComponentLink1Description: Manufacturer Link; ComponentLink1URL: http://www.microchip.com; ComponentLink2Description: Datasheet; ComponentLink2URL: http://ww1.microchip.com/downloads/en/DeviceDoc/21756b.pdf; ComponentLink3Description: Packaging Specification; ComponentLink3URL: http://ww1.microchip.com/downloads/en/PackagingSpec/00049AW.pdf
footprint SOIC-OA8_N (SOIC, 8-Leads, Body 4.9x3.9mm, Pitch 1.27mm, IPC Medium Density)
footprint SOIC-OA8_L (SOIC, 8-Leads, Body 4.9x3.9mm, Pitch 1.27mm, IPC High Density)
footprint SOIC-OA8_M (SOIC, 8-Leads, Body 4.9x3.9mm, Pitch 1.27mm, IPC Low Density)
pins: 1 VIN (in), 2 CF, 3 VMIN (in), 4 GND (power), 5 SENSE (in), 6 ~{FAULT} (oc), 7 VOUT (out), 8 VDD (power)

## TC642BEOA713
designator U?
PWM Fan Speed Controller with Minimum Fan Speed, Fan Restart and FanSense Technology for Fault Detection, 8-Pin SOIC, Industrial Temperature, Tape and Reel; Published: 29-Jan-2009; DatasheetVersion: revB, May-2003; PackageVersion: revAW, Oct-2008; PackageReference: SOIC-OA8; Publisher: Altium Limited; Code_IPC: SOIC127P600-8; ComponentLink1Description: Manufacturer Link; ComponentLink1URL: http://www.microchip.com; ComponentLink2Description: Datasheet; ComponentLink2URL: http://ww1.microchip.com/downloads/en/DeviceDoc/21756b.pdf; ComponentLink3Description: Packaging Specification; ComponentLink3URL: http://ww1.microchip.com/downloads/en/PackagingSpec/00049AW.pdf
footprint SOIC-OA8_N (SOIC, 8-Leads, Body 4.9x3.9mm, Pitch 1.27mm, IPC Medium Density)
footprint SOIC-OA8_L (SOIC, 8-Leads, Body 4.9x3.9mm, Pitch 1.27mm, IPC High Density)
footprint SOIC-OA8_M (SOIC, 8-Leads, Body 4.9x3.9mm, Pitch 1.27mm, IPC Low Density)
pins: 1 VIN (in), 2 CF, 3 VMIN (in), 4 GND (power), 5 SENSE (in), 6 ~{FAULT} (oc), 7 VOUT (out), 8 VDD (power)

## TC642BEPA
designator U?
PWM Fan Speed Controller with Minimum Fan Speed, Fan Restart and FanSense Technology for Fault Detection, 8-Pin PDIP, Industrial Temperature; Published: 29-Jan-2009; DatasheetVersion: revB, May-2003; PackageVersion: revAW, Oct-2008; PackageReference: PDIP300-PA8; Publisher: Altium Limited; Code_JEDEC: MS-001-BA; ComponentLink1Description: Manufacturer Link; ComponentLink1URL: http://www.microchip.com; ComponentLink2Description: Datasheet; ComponentLink2URL: http://ww1.microchip.com/downloads/en/DeviceDoc/21756b.pdf; ComponentLink3Description: Packaging Specification; ComponentLink3URL: http://ww1.microchip.com/downloads/en/PackagingSpec/00049AW.pdf
footprint PDIP300-PA8 (DIP, 8-Leads, Row Spacing 7.62mm, Pitch 2.54mm, Body 9.5x6.6mm)
pins: 1 VIN (in), 2 CF, 3 VMIN (in), 4 GND (power), 5 SENSE (in), 6 ~{FAULT} (oc), 7 VOUT (out), 8 VDD (power)

## TC642BEUA
designator U?
PWM Fan Speed Controller with Minimum Fan Speed, Fan Restart and FanSense Technology for Fault Detection, 8-Pin MSOP, Industrial Temperature; Published: 29-Jan-2009; DatasheetVersion: revB, May-2003; PackageVersion: revAW, Oct-2008; PackageReference: MSOP-UA8; Publisher: Altium Limited; Code_JEDEC: MO-187-AA; ComponentLink1Description: Manufacturer Link; ComponentLink1URL: http://www.microchip.com; ComponentLink2Description: Datasheet; ComponentLink2URL: http://ww1.microchip.com/downloads/en/DeviceDoc/21756b.pdf; ComponentLink3Description: Packaging Specification; ComponentLink3URL: http://ww1.microchip.com/downloads/en/PackagingSpec/00049AW.pdf
footprint MSOP-UA8_N (TSOP, 8-Leads, Body 3x3mm, Pitch 0.65mm, IPC Medium Density)
footprint MSOP-UA8_L (TSOP, 8-Leads, Body 3x3mm, Pitch 0.65mm, IPC High Density)
footprint MSOP-UA8_M (TSOP, 8-Leads, Body 3x3mm, Pitch 0.65mm, IPC Low Density)
pins: 1 VIN (in), 2 CF, 3 VMIN (in), 4 GND (power), 5 SENSE (in), 6 ~{FAULT} (oc), 7 VOUT (out), 8 VDD (power)

## TC642BEUA713
designator U?
PWM Fan Speed Controller with Minimum Fan Speed, Fan Restart and FanSense Technology for Fault Detection, 8-Pin MSOP, Industrial Temperature, Tape and Reel; Published: 29-Jan-2009; DatasheetVersion: revB, May-2003; PackageVersion: revAW, Oct-2008; PackageReference: MSOP-UA8; Publisher: Altium Limited; Code_JEDEC: MO-187-AA; ComponentLink1Description: Manufacturer Link; ComponentLink1URL: http://www.microchip.com; ComponentLink2Description: Datasheet; ComponentLink2URL: http://ww1.microchip.com/downloads/en/DeviceDoc/21756b.pdf; ComponentLink3Description: Packaging Specification; ComponentLink3URL: http://ww1.microchip.com/downloads/en/PackagingSpec/00049AW.pdf
footprint MSOP-UA8_N (TSOP, 8-Leads, Body 3x3mm, Pitch 0.65mm, IPC Medium Density)
footprint MSOP-UA8_L (TSOP, 8-Leads, Body 3x3mm, Pitch 0.65mm, IPC High Density)
footprint MSOP-UA8_M (TSOP, 8-Leads, Body 3x3mm, Pitch 0.65mm, IPC Low Density)
pins: 1 VIN (in), 2 CF, 3 VMIN (in), 4 GND (power), 5 SENSE (in), 6 ~{FAULT} (oc), 7 VOUT (out), 8 VDD (power)

## TC642COA
designator U?
PWM Fan Speed Controller with FanSense Technology, 8-Pin SOIC, Commercial Temperature; Published: 29-Jan-2009; DatasheetVersion: revC, Oct-2002; PackageVersion: revAW, Oct-2008; PackageReference: SOIC-OA8; Publisher: Altium Limited; Code_IPC: SOIC127P600-8; ComponentLink1Description: Manufacturer Link; ComponentLink1URL: http://www.microchip.com; ComponentLink2Description: Datasheet; ComponentLink2URL: http://ww1.microchip.com/downloads/en/DeviceDoc/21444c.pdf; ComponentLink3Description: Packaging Specification; ComponentLink3URL: http://ww1.microchip.com/downloads/en/PackagingSpec/00049AW.pdf
footprint SOIC-OA8_N (SOIC, 8-Leads, Body 4.9x3.9mm, Pitch 1.27mm, IPC Medium Density)
footprint SOIC-OA8_L (SOIC, 8-Leads, Body 4.9x3.9mm, Pitch 1.27mm, IPC High Density)
footprint SOIC-OA8_M (SOIC, 8-Leads, Body 4.9x3.9mm, Pitch 1.27mm, IPC Low Density)
pins: 1 VIN (in), 2 CF, 3 VMIN (in), 4 GND (power), 5 SENSE (in), 6 ~{FAULT} (oc), 7 VOUT (out), 8 VDD (power)

## TC642COA713
designator U?
PWM Fan Speed Controller with FanSense Technology, 8-Pin SOIC, Commercial Temperature, Tape and Reel; Published: 29-Jan-2009; DatasheetVersion: revC, Oct-2002; PackageVersion: revAW, Oct-2008; PackageReference: SOIC-OA8; Publisher: Altium Limited; Code_IPC: SOIC127P600-8; ComponentLink1Description: Manufacturer Link; ComponentLink1URL: http://www.microchip.com; ComponentLink2Description: Datasheet; ComponentLink2URL: http://ww1.microchip.com/downloads/en/DeviceDoc/21444c.pdf; ComponentLink3Description: Packaging Specification; ComponentLink3URL: http://ww1.microchip.com/downloads/en/PackagingSpec/00049AW.pdf
footprint SOIC-OA8_N (SOIC, 8-Leads, Body 4.9x3.9mm, Pitch 1.27mm, IPC Medium Density)
footprint SOIC-OA8_L (SOIC, 8-Leads, Body 4.9x3.9mm, Pitch 1.27mm, IPC High Density)
footprint SOIC-OA8_M (SOIC, 8-Leads, Body 4.9x3.9mm, Pitch 1.27mm, IPC Low Density)
pins: 1 VIN (in), 2 CF, 3 VMIN (in), 4 GND (power), 5 SENSE (in), 6 ~{FAULT} (oc), 7 VOUT (out), 8 VDD (power)

## TC642CPA
designator U?
PWM Fan Speed Controller with FanSense Technology, 8-Pin PDIP, Commercial Temperature; Published: 29-Jan-2009; DatasheetVersion: revC, Oct-2002; PackageVersion: revAW, Oct-2008; PackageReference: PDIP300-PA8; Publisher: Altium Limited; Code_JEDEC: MS-001-BA; ComponentLink1Description: Manufacturer Link; ComponentLink1URL: http://www.microchip.com; ComponentLink2Description: Datasheet; ComponentLink2URL: http://ww1.microchip.com/downloads/en/DeviceDoc/21444c.pdf; ComponentLink3Description: Packaging Specification; ComponentLink3URL: http://ww1.microchip.com/downloads/en/PackagingSpec/00049AW.pdf
footprint PDIP300-PA8 (DIP, 8-Leads, Row Spacing 7.62mm, Pitch 2.54mm, Body 9.5x6.6mm)
pins: 1 VIN (in), 2 CF, 3 VMIN (in), 4 GND (power), 5 SENSE (in), 6 ~{FAULT} (oc), 7 VOUT (out), 8 VDD (power)

## TC642EOA
designator U?
PWM Fan Speed Controller with FanSense Technology, 8-Pin SOIC, Industrial Temperature; Published: 29-Jan-2009; DatasheetVersion: revC, Oct-2002; PackageVersion: revAW, Oct-2008; PackageReference: SOIC-OA8; Publisher: Altium Limited; Code_IPC: SOIC127P600-8; ComponentLink1Description: Manufacturer Link; ComponentLink1URL: http://www.microchip.com; ComponentLink2Description: Datasheet; ComponentLink2URL: http://ww1.microchip.com/downloads/en/DeviceDoc/21444c.pdf; ComponentLink3Description: Packaging Specification; ComponentLink3URL: http://ww1.microchip.com/downloads/en/PackagingSpec/00049AW.pdf
footprint SOIC-OA8_N (SOIC, 8-Leads, Body 4.9x3.9mm, Pitch 1.27mm, IPC Medium Density)
footprint SOIC-OA8_L (SOIC, 8-Leads, Body 4.9x3.9mm, Pitch 1.27mm, IPC High Density)
footprint SOIC-OA8_M (SOIC, 8-Leads, Body 4.9x3.9mm, Pitch 1.27mm, IPC Low Density)
pins: 1 VIN (in), 2 CF, 3 VMIN (in), 4 GND (power), 5 SENSE (in), 6 ~{FAULT} (oc), 7 VOUT (out), 8 VDD (power)

## TC642EOA713
designator U?
PWM Fan Speed Controller with FanSense Technology, 8-Pin SOIC, Industrial Temperature, Tape and Reel; Published: 29-Jan-2009; DatasheetVersion: revC, Oct-2002; PackageVersion: revAW, Oct-2008; PackageReference: SOIC-OA8; Publisher: Altium Limited; Code_IPC: SOIC127P600-8; ComponentLink1Description: Manufacturer Link; ComponentLink1URL: http://www.microchip.com; ComponentLink2Description: Datasheet; ComponentLink2URL: http://ww1.microchip.com/downloads/en/DeviceDoc/21444c.pdf; ComponentLink3Description: Packaging Specification; ComponentLink3URL: http://ww1.microchip.com/downloads/en/PackagingSpec/00049AW.pdf
footprint SOIC-OA8_N (SOIC, 8-Leads, Body 4.9x3.9mm, Pitch 1.27mm, IPC Medium Density)
footprint SOIC-OA8_L (SOIC, 8-Leads, Body 4.9x3.9mm, Pitch 1.27mm, IPC High Density)
footprint SOIC-OA8_M (SOIC, 8-Leads, Body 4.9x3.9mm, Pitch 1.27mm, IPC Low Density)
pins: 1 VIN (in), 2 CF, 3 VMIN (in), 4 GND (power), 5 SENSE (in), 6 ~{FAULT} (oc), 7 VOUT (out), 8 VDD (power)

## TC642EUA
designator U?
PWM Fan Speed Controller with FanSense Technology, 8-Pin MSOP, Industrial Temperature; Published: 29-Jan-2009; DatasheetVersion: revC, Oct-2002; PackageVersion: revAW, Oct-2008; PackageReference: MSOP-UA8; Publisher: Altium Limited; Code_JEDEC: MO-187-AA; ComponentLink1Description: Manufacturer Link; ComponentLink1URL: http://www.microchip.com; ComponentLink2Description: Datasheet; ComponentLink2URL: http://ww1.microchip.com/downloads/en/DeviceDoc/21444c.pdf; ComponentLink3Description: Packaging Specification; ComponentLink3URL: http://ww1.microchip.com/downloads/en/PackagingSpec/00049AW.pdf
footprint MSOP-UA8_N (TSOP, 8-Leads, Body 3x3mm, Pitch 0.65mm, IPC Medium Density)
footprint MSOP-UA8_L (TSOP, 8-Leads, Body 3x3mm, Pitch 0.65mm, IPC High Density)
footprint MSOP-UA8_M (TSOP, 8-Leads, Body 3x3mm, Pitch 0.65mm, IPC Low Density)
pins: 1 VIN (in), 2 CF, 3 VMIN (in), 4 GND (power), 5 SENSE (in), 6 ~{FAULT} (oc), 7 VOUT (out), 8 VDD (power)

## TC642EUA713
designator U?
PWM Fan Speed Controller with FanSense Technology, 8-Pin MSOP, Industrial Temperature, Tape and Reel; Published: 29-Jan-2009; DatasheetVersion: revC, Oct-2002; PackageVersion: revAW, Oct-2008; PackageReference: MSOP-UA8; Publisher: Altium Limited; Code_JEDEC: MO-187-AA; ComponentLink1Description: Manufacturer Link; ComponentLink1URL: http://www.microchip.com; ComponentLink2Description: Datasheet; ComponentLink2URL: http://ww1.microchip.com/downloads/en/DeviceDoc/21444c.pdf; ComponentLink3Description: Packaging Specification; ComponentLink3URL: http://ww1.microchip.com/downloads/en/PackagingSpec/00049AW.pdf
footprint MSOP-UA8_N (TSOP, 8-Leads, Body 3x3mm, Pitch 0.65mm, IPC Medium Density)
footprint MSOP-UA8_L (TSOP, 8-Leads, Body 3x3mm, Pitch 0.65mm, IPC High Density)
footprint MSOP-UA8_M (TSOP, 8-Leads, Body 3x3mm, Pitch 0.65mm, IPC Low Density)
pins: 1 VIN (in), 2 CF, 3 VMIN (in), 4 GND (power), 5 SENSE (in), 6 ~{FAULT} (oc), 7 VOUT (out), 8 VDD (power)

## TC642VOA
designator U?
PWM Fan Speed Controller with FanSense Technology, 8-Pin SOIC; Published: 29-Jan-2009; DatasheetVersion: revC, Oct-2002; PackageVersion: revAW, Oct-2008; PackageReference: SOIC-OA8; Publisher: Altium Limited; Code_IPC: SOIC127P600-8; ComponentLink1Description: Manufacturer Link; ComponentLink1URL: http://www.microchip.com; ComponentLink2Description: Datasheet; ComponentLink2URL: http://ww1.microchip.com/downloads/en/DeviceDoc/21444c.pdf; ComponentLink3Description: Packaging Specification; ComponentLink3URL: http://ww1.microchip.com/downloads/en/PackagingSpec/00049AW.pdf
footprint SOIC-OA8_N (SOIC, 8-Leads, Body 4.9x3.9mm, Pitch 1.27mm, IPC Medium Density)
footprint SOIC-OA8_L (SOIC, 8-Leads, Body 4.9x3.9mm, Pitch 1.27mm, IPC High Density)
footprint SOIC-OA8_M (SOIC, 8-Leads, Body 4.9x3.9mm, Pitch 1.27mm, IPC Low Density)
pins: 1 VIN (in), 2 CF, 3 VMIN (in), 4 GND (power), 5 SENSE (in), 6 ~{FAULT} (oc), 7 VOUT (out), 8 VDD (power)

## TC642VOA713
designator U?
PWM Fan Speed Controller with FanSense Technology, 8-Pin SOIC, Commercial Temperature, Tape and Reel; Published: 29-Jan-2009; DatasheetVersion: revC, Oct-2002; PackageVersion: revAW, Oct-2008; PackageReference: SOIC-OA8; Publisher: Altium Limited; Code_IPC: SOIC127P600-8; ComponentLink1Description: Manufacturer Link; ComponentLink1URL: http://www.microchip.com; ComponentLink2Description: Datasheet; ComponentLink2URL: http://ww1.microchip.com/downloads/en/DeviceDoc/21444c.pdf; ComponentLink3Description: Packaging Specification; ComponentLink3URL: http://ww1.microchip.com/downloads/en/PackagingSpec/00049AW.pdf
footprint SOIC-OA8_N (SOIC, 8-Leads, Body 4.9x3.9mm, Pitch 1.27mm, IPC Medium Density)
footprint SOIC-OA8_L (SOIC, 8-Leads, Body 4.9x3.9mm, Pitch 1.27mm, IPC High Density)
footprint SOIC-OA8_M (SOIC, 8-Leads, Body 4.9x3.9mm, Pitch 1.27mm, IPC Low Density)
pins: 1 VIN (in), 2 CF, 3 VMIN (in), 4 GND (power), 5 SENSE (in), 6 ~{FAULT} (oc), 7 VOUT (out), 8 VDD (power)

## TC642VPA
designator U?
PWM Fan Speed Controller with FanSense Technology, 8-Pin PDIP; Published: 29-Jan-2009; DatasheetVersion: revC, Oct-2002; PackageVersion: revAW, Oct-2008; PackageReference: PDIP300-PA8; Publisher: Altium Limited; Code_JEDEC: MS-001-BA; ComponentLink1Description: Manufacturer Link; ComponentLink1URL: http://www.microchip.com; ComponentLink2Description: Datasheet; ComponentLink2URL: http://ww1.microchip.com/downloads/en/DeviceDoc/21444c.pdf; ComponentLink3Description: Packaging Specification; ComponentLink3URL: http://ww1.microchip.com/downloads/en/PackagingSpec/00049AW.pdf
footprint PDIP300-PA8 (DIP, 8-Leads, Row Spacing 7.62mm, Pitch 2.54mm, Body 9.5x6.6mm)
pins: 1 VIN (in), 2 CF, 3 VMIN (in), 4 GND (power), 5 SENSE (in), 6 ~{FAULT} (oc), 7 VOUT (out), 8 VDD (power)

## TC642VUA
designator U?
PWM Fan Speed Controller with FanSense Technology, 8-Pin MSOP; Published: 29-Jan-2009; DatasheetVersion: revC, Oct-2002; PackageVersion: revAW, Oct-2008; PackageReference: MSOP-UA8; Publisher: Altium Limited; Code_JEDEC: MO-187-AA; ComponentLink1Description: Manufacturer Link; ComponentLink1URL: http://www.microchip.com; ComponentLink2Description: Datasheet; ComponentLink2URL: http://ww1.microchip.com/downloads/en/DeviceDoc/21444c.pdf; ComponentLink3Description: Packaging Specification; ComponentLink3URL: http://ww1.microchip.com/downloads/en/PackagingSpec/00049AW.pdf
footprint MSOP-UA8_N (TSOP, 8-Leads, Body 3x3mm, Pitch 0.65mm, IPC Medium Density)
footprint MSOP-UA8_L (TSOP, 8-Leads, Body 3x3mm, Pitch 0.65mm, IPC High Density)
footprint MSOP-UA8_M (TSOP, 8-Leads, Body 3x3mm, Pitch 0.65mm, IPC Low Density)
pins: 1 VIN (in), 2 CF, 3 VMIN (in), 4 GND (power), 5 SENSE (in), 6 ~{FAULT} (oc), 7 VOUT (out), 8 VDD (power)